# Altium footprint library Power_Relay.PcbLib: 1 footprints
Each footprint in its own frame and in the unit in brackets; x right, y up, seen from the top. Pads: shape width x height; smd on the part's side, far side on the other; paste and mask are expansions set on the pad; w line width, h text height; cw(c..) or ccw(c..) is an arc to the next point about the centre after c.
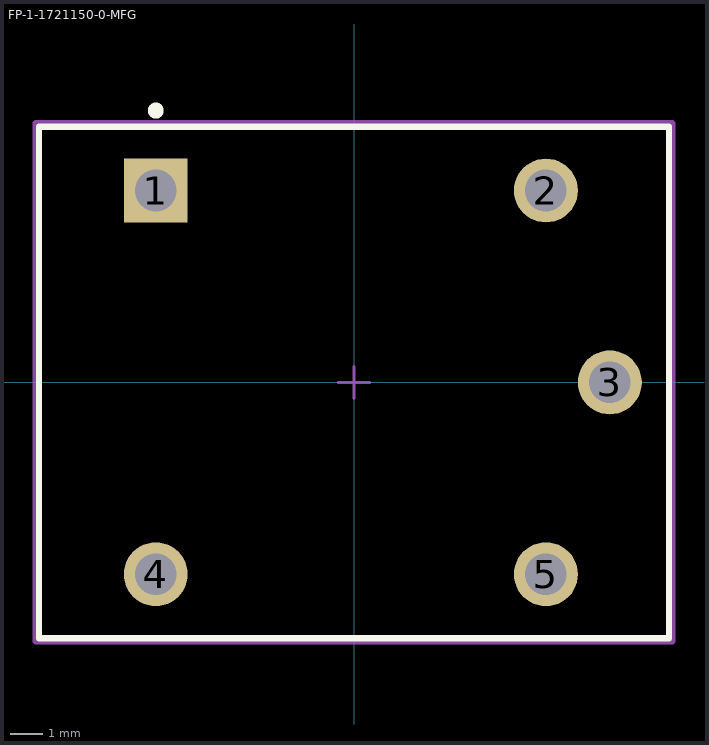
[diagram p0: the footprint, top view; thin cyan lines are the x and y axes]

## FP-1-1721150-0-MFG [mm]
pads (5):
  rect 2x2 hole 1.3 paste-2539.97 mask+0: 1(-6.2,6)
  round 2 hole 1.3 paste-2539.97 mask+0: 2(6,6) 3(8,0) 4(-6.2,-6) 5(6,-6)
Top Overlay:
  circle w0.25: c-6.2,8.5 r0.125
  lines w0.2: -9.85,-8 -9.85,8 9.85,8 9.85,-8 -9.85,-8
Top Assembly:
  lines w0.2: -9.95,-8.1 -9.95,8.1 9.95,8.1 9.95,-8.1 -9.95,-8.1
  text ".Designator" at 0,0.187 h1
Top 3D Body:
  lines w0.2: -9.85,-8 -9.85,8 9.85,8 9.85,-8 -9.85,-8
Top Courtyard:
  lines w0.2: -9.95,-8.1 -9.95,8.1 9.95,8.1 9.95,-8.1 -9.95,-8.1
Top Component Center:
  lines w0.1: -0.5,0 0.5,0 ; 0,-0.5 0,0.5
3D body "Relay_TE_1-1721150-0_eec.STEP": height 0.25, standoff 0, extent -9.95,-8.1 9.95,8.1